# EAGLE library part 201646-016 (library con-molex-spoton)
HEADER
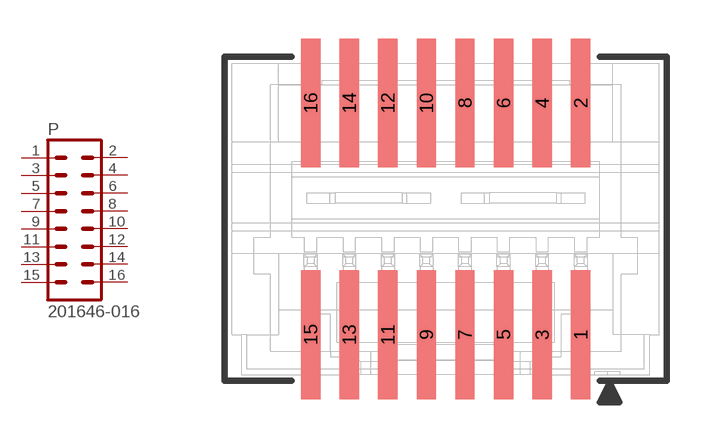
[diagram p4: symbol with the pads of 201646-016; footprint 201646-016]

Designator prefix P

## 201646-016  [201646-016]
1  1  pas
2  2  pas
3  3  pas
4  4  pas
5  5  pas
6  6  pas
7  7  pas
8  8  pas
9  9  pas
10  10  pas
11  11  pas
12  12  pas
13  13  pas
14  14  pas
15  15  pas
16  16  pas

## Footprint 201646-016 (pad centres in mm)
HEADER
smd 0.75 x 5: 1 5.25,-4.5; 2 5.25,4.5; 3 3.75,-4.5; 4 3.75,4.5; 5 2.25,-4.5; 6 2.25,4.5; 7 0.75,-4.5; 8 0.75,4.5; 9 -0.75,-4.5; 10 -0.75,4.5; 11 -2.25,-4.5; 12 -2.25,4.5; 13 -3.75,-4.5; 14 -3.75,4.5; 15 -5.25,-4.5; 16 -5.25,4.5